# EAGLE library part 693023010811 (library Input Output Connectors)
CONN SMART CARD PUSH-PULL Manufacturer's datasheet <https://katalog.we-online.de/em/datasheet/693023010811.pdf>
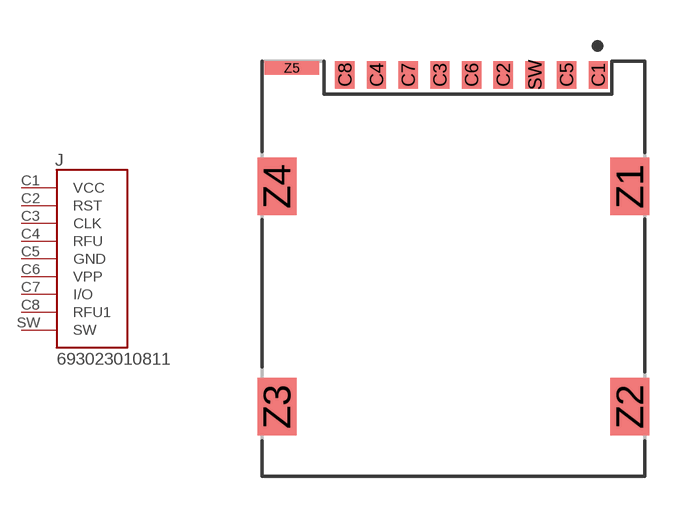
[diagram p0: symbol with the pads of 693023010811; footprint 693023010811]

Designator prefix J

## 693023010811 (CREATED_BY: PCBLayout.com; DIGIKEY_PART_NO: 732-5956-2-ND; MANUFACTURER: Wurth Electronics Inc.; MPN: 693023010811)  [693023010811]
C1  VCC  pwr
C2  RST  in
C3  CLK  in
C4  RFU  pas
C5  GND  pwr
C6  VPP  pwr
C7  I/O
C8  RFU1  pas
SW  SW  pas

## Footprint 693023010811 (pad centres in mm)
smd 0.67 x 0.95: C1 5.03,0; C2 1.73,0; C3 -0.47,0; C4 -2.67,0; C5 3.93,0; C6 0.63,0; C7 -1.57,0; C8 -3.77,0; SW 2.83,0
smd 1.35 x 2: Z1 6.13,-3.875; Z2 6.13,-11.525; Z3 -6.13,-11.525; Z4 -6.13,-3.875
smd 1.89 x 0.475: Z5 -5.615,0.237